# Altium integrated library TE_1462042-9.IntLib: 1 symbol
Pins are listed as number, name and electrical type; pins without a type are passive.

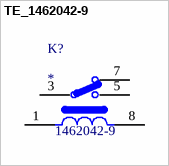
[diagram p0: symbol TE_1462042-9]

## TE_1462042-9
designator K?
Electromechanical Relay 12VDC 1.029KOhm 3A SPDT (10x7.5x5.65)mm SMD Signal Relay; MP: 1462042-9; MF: {'manufacturer': 'TE Connectivity'}; Price: None; Availability: Unavailable; Package: None; Value: *
footprint TE_1462042-9_0
pins: 1, 3, 5, 7, 8